# Altium schematic symbol library 885012107013.SchLib: 1 symbol
Pins are listed as number, name and electrical type; pins without a type are passive.

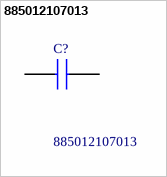
[diagram p0: symbol 885012107013]

## 885012107013
designator C?
Multilayer Ceramic Capacitor 4.7uF 0805; Manufacturer_Name: Wurth Elektronik; Geometry.Height: 1.45mm; Manufacturer_Part_Number: 885012107013; Mouser Part Number: 710-885012107013; Mouser Price/Stock: https://www.mouser.co.uk/ProductDetail/Wurth-Elektronik/885012107013?qs=0KOYDY2FL29a055VqgRqNw%3D%3D; Arrow Part Number: *; Arrow Price/Stock: *; Datasheet Link: https://katalog.we-online.de/pbs/datasheet/885012107013.pdf
footprint CAPC2012X145N
pins: 1, 2